# Altium schematic symbol library 249KP1.Schlib: 1 symbol
Pins are listed as number, name and electrical type; pins without a type are passive.

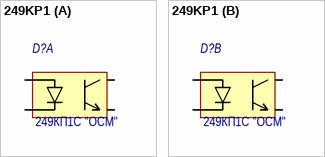
[diagram p0: symbol 249KP1]

## 249KP1
designator D?, comment Наименование: 249КП1C "ОСМ"  (hidden comment: 249KP1S OSM)
Транзисторная оптопара; Потребление, Вт: 0,005; Назначение: Оптопара; ComponentLink1Description: DataSheet; ComponentLink1URL: https://eandc.ru/pdf/mikroskhema/249kp1.pdf
footprint 401.14-4
part A pins: 2 29, 3 29, 11 29, 13 29
part B pins: 4, 6, 9, 10